# EAGLE library part MT47H256M8_7_BGA96_T9_P8_9X14_M (library BeagleBone_Black_egl)
MT47H256M8_7_BGA96_T9_P8_9X14_M
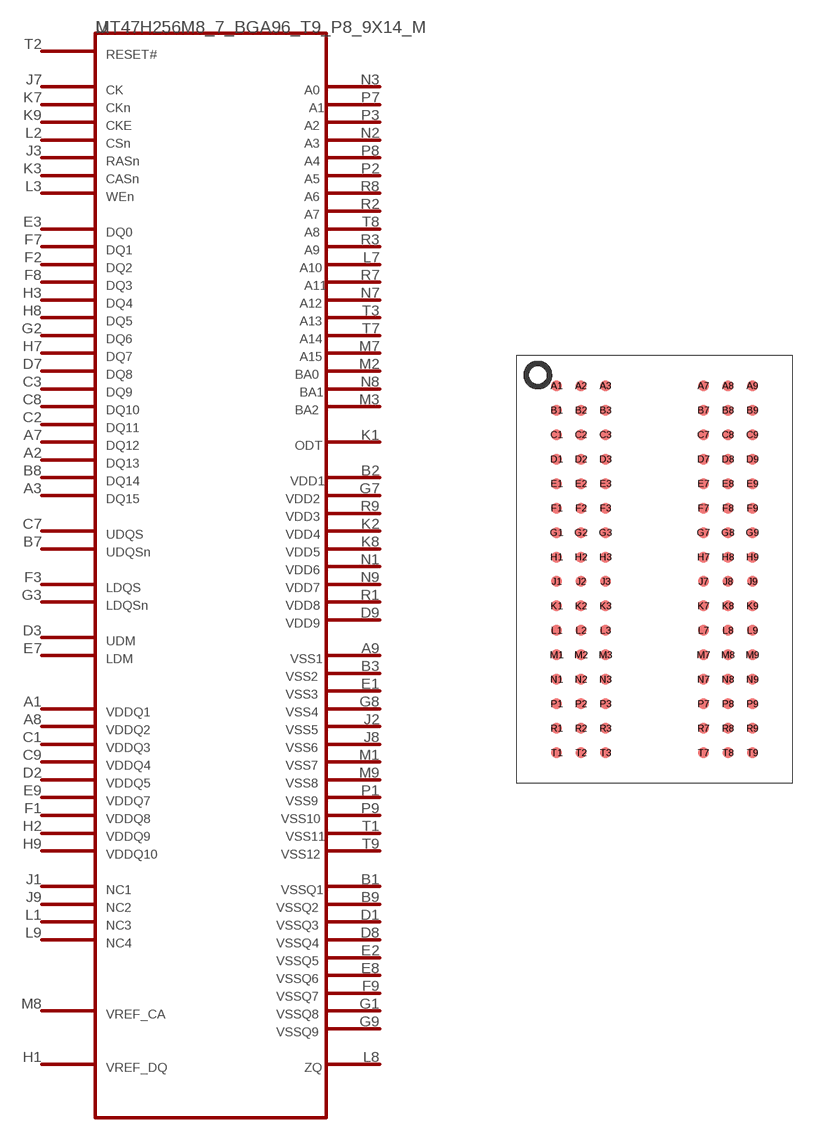
[diagram p15: symbol with the pads of BGA96_T9_P8_9X14; footprint BGA96_T9_P8_9X14]

Designator prefix -

## MT47H256M8_7_BGA96_T9_P8_9X14_M  [BGA96_T9_P8_9X14]
A1  44
A2  63
A3  62
A7  61
A8  45
A9  35
B1  42
B2  49
B3  36
B7  51
B8  60
B9  41
C1  46
C2  59
C3  96
C7  55
C8  58
C9  47
D1  40
D2  48
D3  52
D7  57
D8  39
D9  64
E1  37
E2  43
E3  26
E7  53
E8  65
E9  66
F1  67
F2  28
F3  56
F7  27
F8  29
F9  68
G1  69
G2  32
G3  54
G7  50
G8  38
G9  70
H1  71
H2  72
H3  30
H7  33
H8  31
H9  73
J1  74
J2  76
J3  5
J7  1
J8  77
J9  75
K1  34
K2  78
K3  6
K7  2
K8  79
K9  3
L1  80
L2  4
L3  7
L7  18
L8  81
L9  82
M1  83
M2  23
M3  25
M7  84
M8  85
M9  86
N1  87
N2  11
N3  8
N7  20
N8  24
N9  88
P1  89
P2  13
P3  10
P7  9
P8  12
P9  90
R1  91
R2  15
R3  17
R7  19
R8  14
R9  92
T1  93
T2  94
T3  21
T7  22
T8  16
T9  95

## Footprint BGA96_T9_P8_9X14 (pad centres in mm)
smd 0.356 x 0.356: A1 -3.2,6.001; A2 -2.4,6.001; A3 -1.6,6.001; A7 1.6,6.001; A8 2.4,6.001; A9 3.2,6.001; B1 -3.2,5.201; B2 -2.4,5.201; B3 -1.6,5.201; B7 1.6,5.201; B8 2.4,5.201; B9 3.2,5.201; C1 -3.2,4.401; C2 -2.4,4.401; C3 -1.6,4.401; C7 1.6,4.401; C8 2.4,4.401; C9 3.2,4.401; D1 -3.2,3.6; D2 -2.4,3.6; D3 -1.6,3.6; D7 1.6,3.6; D8 2.4,3.6; D9 3.2,3.6; E1 -3.2,2.8; E2 -2.4,2.8; E3 -1.6,2.8; E7 1.6,2.8; E8 2.4,2.8; E9 3.2,2.8; F1 -3.2,2; F2 -2.4,2; F3 -1.6,2; F7 1.6,2; F8 2.4,2; F9 3.2,2; G1 -3.2,1.2; G2 -2.4,1.2; G3 -1.6,1.2; G7 1.6,1.2; G8 2.4,1.2; G9 3.2,1.2; H1 -3.2,0.4; H2 -2.4,0.4; H3 -1.6,0.4; H7 1.6,0.4; H8 2.4,0.4; H9 3.2,0.4; J1 -3.2,-0.4; J2 -2.4,-0.4; J3 -1.6,-0.4; J7 1.6,-0.4; J8 2.4,-0.4; J9 3.2,-0.4; K1 -3.2,-1.2; K2 -2.4,-1.2; K3 -1.6,-1.2; K7 1.6,-1.2; K8 2.4,-1.2; K9 3.2,-1.2; L1 -3.2,-2; L2 -2.4,-2; L3 -1.6,-2; L7 1.6,-2; L8 2.4,-2; L9 3.2,-2; M1 -3.2,-2.8; M2 -2.4,-2.8; M3 -1.6,-2.8; M7 1.6,-2.8; M8 2.4,-2.8; M9 3.2,-2.8; N1 -3.2,-3.6; N2 -2.4,-3.6; N3 -1.6,-3.6; N7 1.6,-3.6; N8 2.4,-3.6; N9 3.2,-3.6; P1 -3.2,-4.401; P2 -2.4,-4.401; P3 -1.6,-4.401; P7 1.6,-4.401; P8 2.4,-4.401; P9 3.2,-4.401; R1 -3.2,-5.201; R2 -2.4,-5.201; R3 -1.6,-5.201; R7 1.6,-5.201; R8 2.4,-5.201; R9 3.2,-5.201; T1 -3.2,-6.001; T2 -2.4,-6.001; T3 -1.6,-6.001; T7 1.6,-6.001; T8 2.4,-6.001; T9 3.2,-6.001